# Altium schematic symbol library Capacitors.SchLib: 105 symbols
Pins are listed as number, name and electrical type; pins without a type are passive.

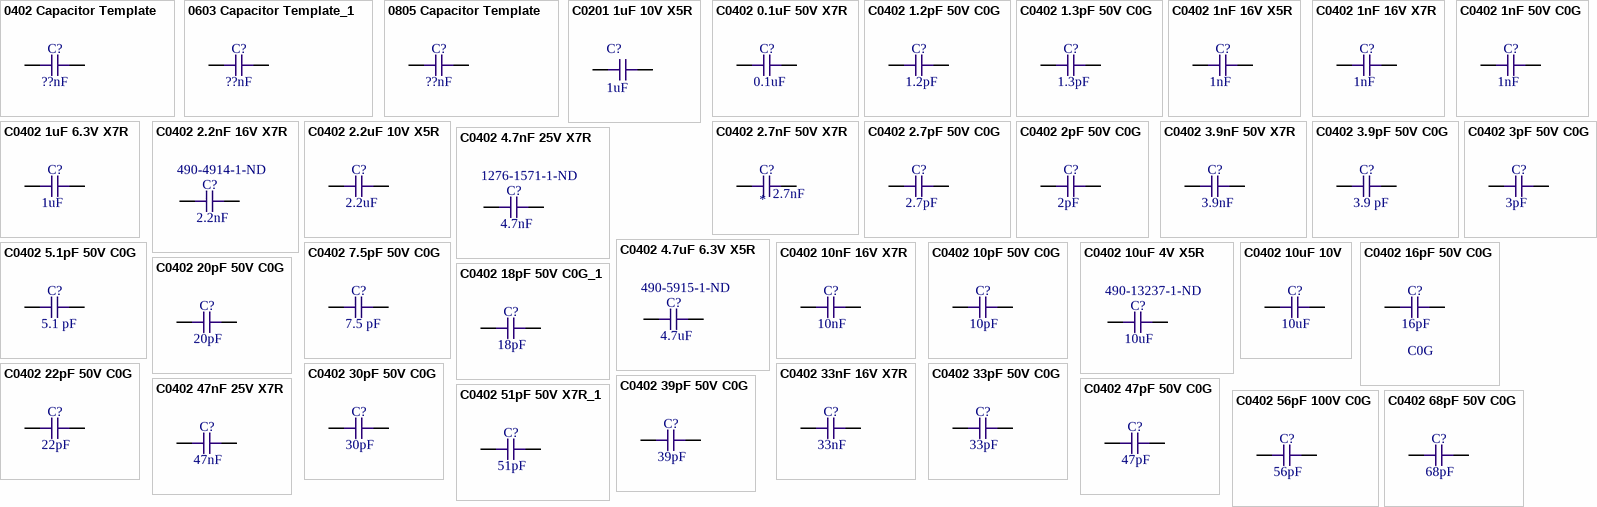
[diagram p0: symbols 0402 Capacitor Template to C0402 68pF 50V C0G]

## 0402 Capacitor Template
designator C?  value ??nF  (hidden comment: *)
Chip Capacitor, 0402, ??nF, 10V, X7R; EIA Code: X7R; Max. Voltage: 10V
footprint C0402-IPC
footprint C0402-HIGH-DENSITY (Chip Capacitor, 2-Leads, Body 1.02x0.51mm, IPC High Density)
pins: 1, 2

## 0603 Capacitor Template_1
designator C?  value ??nF  (hidden comment: *)
Chip Capacitor, 0603, ??nF, 10V, X7R; EIA Code: X7R; Max. Voltage: 10V
footprint C0603-IPC
footprint C0603-HIGH-DENSITY (Chip Capacitor, 2-Leads, Body 1.60x0.80mm, IPC High Density)
pins: 1, 2

## 0805 Capacitor Template
designator C?  value ??nF  (hidden comment: *)
Chip Capacitor, 0805, ??nF, 10V, X7R; EIA Code: X7R; Max. Voltage: 10V
footprint C0805-IPC
footprint C0805-HIGH-DENSITY (Chip Capacitor, 2-Leads, Body 2.00x1.25mm, IPC High Density)
pins: 1, 2

## C0201 1uF 10V X5R
designator C?, comment value 1uF  (hidden comment: CL03A105KP3NSNC)
Chip Capacitor, 0201, 1uF, 10V, X7R; EIA Code: X5R; Max. Voltage: 10V; Supplier 1: Digi-Key; Supplier 2: Mouser; Supplier Part Number 1: 1276-6795-1-ND; Supplier Part Number 2: 187-CL03A105KP3NSNC
footprint C0201-IPC-HIGH-DENSITY (Chip Capacitor, 2-Leads, Body 0.60x0.30mm, IPC High Density)
pins: 1, 2

## C0402 0.1uF 50V X7R
designator C?, comment value 0.1uF  (hidden comment: GRM155R71H104KE14D)
Chip Capacitor, 0402, 0.10uF, 50V, X7R; Supplier 1: Digi-Key; Supplier Part Number 1: 490-10700-1-ND
footprint C0402-IPC
footprint C0402-HIGH-DENSITY (Chip Capacitor, 2-Leads, Body 1.02x0.51mm, IPC High Density)
pins: 1, 2

## C0402 1.2pF 50V C0G
designator C?  value 1.2pF  (hidden comment: *)
Chip Capacitor, 0402, 1.2pF +/- 0.1pF, 50V, C0G; Max. Voltage: 50V; EIA Code: C0G; Supplier 1: Digi-Key; Supplier Part Number 1: 490-8085-1-ND
footprint C0402-IPC
footprint C0402-HIGH-DENSITY (Chip Capacitor, 2-Leads, Body 1.02x0.51mm, IPC High Density)
pins: 1, 2

## C0402 1.3pF 50V C0G
designator C?  value 1.3pF  (hidden comment: *)
Chip Capacitor, 0402, 1.3pF +/- 0.1pF, 50V, C0G; Max. Voltage: 50V; EIA Code: C0G; Supplier 1: Digi-Key; Supplier Part Number 1: 490-8086-1-ND
footprint C0402-IPC
footprint C0402-HIGH-DENSITY (Chip Capacitor, 2-Leads, Body 1.02x0.51mm, IPC High Density)
pins: 1, 2

## C0402 1nF 16V X5R
designator C?  value 1nF  (hidden comment: *)
Chip Capacitor, 0402, 1nF, 16V, X5R; EIA Code: X5R; Max. Voltage: 16V; Supplier 1: Digi-Key; Supplier Part Number 1: 490-6308-1-ND
footprint C0402-IPC
footprint C0402-HIGH-DENSITY (Chip Capacitor, 2-Leads, Body 1.02x0.51mm, IPC High Density)
pins: 1, 2

## C0402 1nF 16V X7R
designator C?  value 1nF  (hidden comment: *)
Chip Capacitor, 0402, 1nF, 25V, X7R; EIA Code: X5R; Max. Voltage: 16V; Supplier 1: Digi-Key; Supplier Part Number 1: 311-1352-1-ND
footprint C0402-IPC
footprint C0402-HIGH-DENSITY (Chip Capacitor, 2-Leads, Body 1.02x0.51mm, IPC High Density)
pins: 1, 2

## C0402 1nF 50V C0G
designator C?  value 1nF  (hidden comment: *)
Chip Capacitor, 0402, 1nF, 5%, 50V, C0G; Max. Voltage: 50V; EIA Code: C0G; Supplier 1: Digi-Key; Supplier Part Number 1: 490-3244-1-ND
footprint C0402-IPC
footprint C0402-HIGH-DENSITY (Chip Capacitor, 2-Leads, Body 1.02x0.51mm, IPC High Density)
pins: 1, 2

## C0402 1uF 6.3V X7R
designator C?  value 1uF  (hidden comment: *)
Chip Capacitor, 0402, 1uF, 6.3V, X7R; EIA Code: X7R; Max. Voltage: 6.3V; Supplier 1: Digi-Key; Supplier Part Number 1: 490-13339-1-ND
footprint C0402-HIGH-DENSITY (Chip Capacitor, 2-Leads, Body 1.02x0.51mm, IPC High Density)
pins: 1, 2

## C0402 2.2nF 16V X7R
designator C?  value 2.2nF  Supplier Part Number 1: 490-4914-1-ND  (hidden comment: *)
Chip Capacitor, 0402, 2.2nF, 25V, X7R; EIA Code: X5R; Max. Voltage: 16V; Supplier 1: Digi-Key
footprint C0402-IPC
footprint C0402-HIGH-DENSITY (Chip Capacitor, 2-Leads, Body 1.02x0.51mm, IPC High Density)
pins: 1, 2

## C0402 2.2uF 10V X5R
designator C?  value 2.2uF  (hidden comment: *)
Chip Capacitor, 0402, 2.2uF, 10V, X5R; EIA Code: X5R; Max. Voltage: 10V; Supplier 1: Digi-Key; Supplier Part Number 1: 490-10452-1-ND
footprint C0402-IPC
footprint C0402-HIGH-DENSITY (Chip Capacitor, 2-Leads, Body 1.02x0.51mm, IPC High Density)
pins: 1, 2

## C0402 2.7nF 50V X7R
designator C?  value 2.7nF
Chip Capcitor, 0402, 2.7nF, 50V, 10%, X7R; Supplier 1: Digi-Key; Supplier Part Number 1: 490-6361-1-ND
footprint C0402-IPC
pins: 1, 2

## C0402 2.7pF 50V C0G
designator C?  value 2.7pF  (hidden comment: *)
Chip Capacitor, 0402, 2.7pF +/- 0.1pF, 50V, C0G; Max. Voltage: 50V; EIA Code: C0G; Supplier 1: Digi-Key; Supplier Part Number 1: 490-8094-1-ND
footprint C0402-IPC
footprint C0402-HIGH-DENSITY (Chip Capacitor, 2-Leads, Body 1.02x0.51mm, IPC High Density)
pins: 1, 2

## C0402 2pF 50V C0G
designator C?  value 2pF  (hidden comment: *)
Chip Capacitor, 0402, 2pF +/0.25pF, 50V, C0G; Max. Voltage: 50V; EIA Code: C0G; Supplier 1: Digi-Key; Supplier Part Number 1: 490-3090-1-ND
footprint C0402-IPC
footprint C0402-HIGH-DENSITY (Chip Capacitor, 2-Leads, Body 1.02x0.51mm, IPC High Density)
pins: 1, 2

## C0402 3.9nF 50V X7R
designator C?  value 3.9nF  (hidden comment: *)
Chip Capacitor, 0402, 3.9nF, 10V, X7R; Max. Voltage: 50V; EIA Code: X7R; Supplier 1: Digi-Key; Supplier Part Number: 490-1307-1-ND
footprint C0402-IPC
footprint C0402-HIGH-DENSITY (Chip Capacitor, 2-Leads, Body 1.02x0.51mm, IPC High Density)
pins: 1, 2

## C0402 3.9pF 50V C0G
designator C?  value 3.9 pF  (hidden comment: *)
Chip Capacitor, 0402, 3.9pF +/- 0.1pF, 50V, C0G; Max. Voltage: 50V; EIA Code: C0G; Supplier 1: Digi-Key; Supplier Part Number 1: 490-11215-1-ND
footprint C0402-IPC
footprint C0402-HIGH-DENSITY (Chip Capacitor, 2-Leads, Body 1.02x0.51mm, IPC High Density)
pins: 1, 2

## C0402 3pF 50V C0G
designator C?  value 3pF  (hidden comment: *)
Chip Capacitor, 0402, 3pF +/0.1pF, 50V, C0G; Max. Voltage: 50V; EIA Code: C0G; Supplier 1: Digi-Key; Supplier Part Number 1: 490-8095-1-ND
footprint C0402-IPC
footprint C0402-HIGH-DENSITY (Chip Capacitor, 2-Leads, Body 1.02x0.51mm, IPC High Density)
pins: 1, 2

## C0402 4.7nF 25V X7R
designator C?  value 4.7nF  Supplier Part Number 1: 1276-1571-1-ND  (hidden comment: *)
Chip Capacitor, 0402, 4.7nF, 25V, X7R; EIA Code: X5R; Max. Voltage: 10V; Supplier 1: Digi-Key
footprint C0402-IPC
footprint C0402-HIGH-DENSITY (Chip Capacitor, 2-Leads, Body 1.02x0.51mm, IPC High Density)
pins: 1, 2

## C0402 4.7uF 6.3V X5R
designator C?  value 4.7uF  Supplier Part Number 1: 490-5915-1-ND  (hidden comment: *)
Chip Capacitor, 0402, 2.2uF, 10V, X5R; EIA Code: X5R; Max. Voltage: 10V; Supplier 1: Digi-Key
footprint C0402-IPC
footprint C0402-HIGH-DENSITY (Chip Capacitor, 2-Leads, Body 1.02x0.51mm, IPC High Density)
pins: 1, 2

## C0402 5.1pF 50V C0G
designator C?  value 5.1 pF  (hidden comment: *)
Chip Capacitor, 0402, 5.1pF +/- 0.1pF, 50V, C0G; Max. Voltage: 50V; EIA Code: C0G; Supplier 1: Digi-Key; Supplier Part Number 1: 490-11222-1-ND
footprint C0402-IPC
footprint C0402-HIGH-DENSITY (Chip Capacitor, 2-Leads, Body 1.02x0.51mm, IPC High Density)
pins: 1, 2

## C0402 7.5pF 50V C0G
designator C?  value 7.5 pF  (hidden comment: *)
Chip Capacitor, 0402, 7.5pF +/- 0.1pF, 50V, C0G; Max. Voltage: 50V; EIA Code: C0G; Supplier 1: Digi-Key; Supplier Part Number 1: 490-11235-1-ND
footprint C0402-IPC
footprint C0402-HIGH-DENSITY (Chip Capacitor, 2-Leads, Body 1.02x0.51mm, IPC High Density)
pins: 1, 2

## C0402 10nF 16V X7R
designator C?  value 10nF  (hidden comment: *)
Chip Capacitor, 0402, 10nF, 16V, X7R; EIA Code: X5R; Max. Voltage: 16V; Supplier 1: Digi-Key; Supplier Part Number 1: 490-1313-1-ND
footprint C0402-IPC
footprint C0402-HIGH-DENSITY (Chip Capacitor, 2-Leads, Body 1.02x0.51mm, IPC High Density)
pins: 1, 2

## C0402 10pF 50V C0G
designator C?  value 10pF  (hidden comment: *)
Chip Capacitor, 0402, 10pF, 50V, C0G; Max. Voltage: 50V; EIA Code: C0G; Supplier 1: Digi-Key; Supplier Part Number 1: 490-8077-1-ND
footprint C0402-IPC
footprint C0402-HIGH-DENSITY (Chip Capacitor, 2-Leads, Body 1.02x0.51mm, IPC High Density)
pins: 1, 2

## C0402 10uF 4V X5R
designator C?  value 10uF  Supplier Part Number 1: 490-13237-1-ND  (hidden comment: *)
Chip Capacitor, 0402, 10uF, 4V, X5R +-20%; EIA Code: X5R; Max. Voltage: 4V; Supplier 1: Digi-Key
footprint C0402-IPC
footprint C0402-HIGH-DENSITY (Chip Capacitor, 2-Leads, Body 1.02x0.51mm, IPC High Density)
pins: 1, 2

## C0402 10uF 10V
designator C?  value 10uF  (hidden comment: *)
Chip Capacitor, 0402, 10uF, 10V, X5R; EIA Code: X5R; Max. Voltage: 10V; Supplier 1: Digi-Key; Supplier Part Number 1: 1276-1450-2-ND
footprint C0402-HIGH-DENSITY (Chip Capacitor, 2-Leads, Body 1.02x0.51mm, IPC High Density)
pins: 1, 2

## C0402 16pF 50V C0G
designator C?  value 16pF  EIA Code: C0G  (hidden comment: *)
Chip Capacitor, 0402, 16pF, 50V, C0G; Max. Voltage: 50V; Supplier 1: Digi-Key; Supplier Part Number 1: 490-5926-1-ND
footprint C0402-IPC
footprint C0402-HIGH-DENSITY (Chip Capacitor, 2-Leads, Body 1.02x0.51mm, IPC High Density)
pins: 1, 2

## C0402 18pF 50V C0G_1
designator C?  value 18pF  (hidden comment: *)
Chip Capacitor, 0402, 18pF, 25V, C0G; Max. Voltage: 25V; Supplier 1: Digi-Key; Supplier Part Number 1: 399-14427-1-ND; EIA Code: C0G
footprint C0402-IPC
footprint C0402-HIGH-DENSITY (Chip Capacitor, 2-Leads, Body 1.02x0.51mm, IPC High Density)
pins: 1, 2

## C0402 20pF 50V C0G
designator C?  value 20pF  (hidden comment: *)
Chip Capacitor, 0402, 20pF, 50V, C0G; Max. Voltage: 50V; EIA Code: C0G; Supplier 1: Digi-Key; Supplier Part Number 1: 490-11204-1-ND
footprint C0402-IPC
footprint C0402-HIGH-DENSITY (Chip Capacitor, 2-Leads, Body 1.02x0.51mm, IPC High Density)
pins: 1, 2

## C0402 22pF 50V C0G
designator C?  value 22pF  (hidden comment: *)
Chip Capacitor, 0402, 22pF, 50V, C0G; Max. Voltage: 50V; EIA Code: C0G; Supplier 1: Digi-Key; Supplier Part Number 1: 490-6219-1-ND
footprint C0402-IPC
footprint C0402-HIGH-DENSITY (Chip Capacitor, 2-Leads, Body 1.02x0.51mm, IPC High Density)
pins: 1, 2

## C0402 30pF 50V C0G
designator C?  value 30pF  (hidden comment: *)
Chip Capacitor, 0402, 30pF, 2%, 50V, C0G; Max. Voltage: 50V; Supplier 1: Digi-Key; EIA Code: C0G; Supplier Part Number 1: 490-8198-1-ND
footprint C0402-IPC
footprint C0402-HIGH-DENSITY (Chip Capacitor, 2-Leads, Body 1.02x0.51mm, IPC High Density)
pins: 1, 2

## C0402 33nF 16V X7R
designator C?  value 33nF  (hidden comment: *)
Chip Capacitor, 0402, 33nF, 16V, X7R; EIA Code: X7R; Max. Voltage: 16V; Supplier 1: Digi-Key; Supplier Part Number 1: 1276-1553-1-ND
footprint C0402-IPC
footprint C0402-HIGH-DENSITY (Chip Capacitor, 2-Leads, Body 1.02x0.51mm, IPC High Density)
pins: 1, 2

## C0402 33pF 50V C0G
designator C?  value 33pF  (hidden comment: *)
Chip Capacitor, 0402, 33pF, 2%, 50V, C0G; Max. Voltage: 50V; EIA Code: C0G; Supplier 1: Digi-Key; Supplier Part Number 1: 490-7755-1-ND
footprint C0402-IPC
footprint C0402-HIGH-DENSITY (Chip Capacitor, 2-Leads, Body 1.02x0.51mm, IPC High Density)
pins: 1, 2

## C0402 39pF 50V C0G
designator C?  value 39pF  (hidden comment: *)
Chip Capacitor, 0402, 39pF, 2%, 50V, C0G; Max. Voltage: 50V; EIA Code: C0G; Supplier 1: Digi-Key; Supplier Part Number 1: 490-6235-1-ND
footprint C0402-IPC
footprint C0402-HIGH-DENSITY (Chip Capacitor, 2-Leads, Body 1.02x0.51mm, IPC High Density)
pins: 1, 2

## C0402 47nF 25V X7R
designator C?  value 47nF  (hidden comment: *)
Chip Capacitor, 0402, 47nF, 25V, X7R; EIA Code: X7R; Max. Voltage: 25V; Supplier 1: Digi-Key; Supplier Part Number 1: 490-7762-1-ND
footprint C0402-IPC
footprint C0402-HIGH-DENSITY (Chip Capacitor, 2-Leads, Body 1.02x0.51mm, IPC High Density)
pins: 1, 2

## C0402 47pF 50V C0G
designator C?  value 47pF  (hidden comment: *)
Chip Capacitor, 0402, 47pF, 1%, 50V, C0G; Max. Voltage: 50V; EIA Code: C0G; Supplier 1: Digi-Key; Supplier Part Number 1: 490-6241-1-ND
footprint C0402-IPC
footprint C0402-HIGH-DENSITY (Chip Capacitor, 2-Leads, Body 1.02x0.51mm, IPC High Density)
pins: 1, 2

## C0402 51pF 50V X7R_1
designator C?  value 51pF  (hidden comment: *)
Chip Capacitor, 0402, 51pF 50V, NP0; EIA Code: NP0; Max. Voltage: 50V; Supplier 1: Digi-Key; Supplier Part Number 1: 1276-1704-1-ND
footprint C0402-IPC
footprint C0402-HIGH-DENSITY (Chip Capacitor, 2-Leads, Body 1.02x0.51mm, IPC High Density)
pins: 1, 2

## C0402 56pF 100V C0G
designator C?  value 56pF  (hidden comment: *)
Chip Capacitor, 0402, 56pF, 1%, 100V, C0G; Max. Voltage: 100V; EIA Code: C0G; Supplier 1: Digi-Key; Supplier Part Number 1: 399-11254-1-ND
footprint C0402-IPC
footprint C0402-HIGH-DENSITY (Chip Capacitor, 2-Leads, Body 1.02x0.51mm, IPC High Density)
pins: 1, 2

## C0402 68pF 50V C0G
designator C?  value 68pF  (hidden comment: *)
Chip Capacitor, 0402, 68pF, 2%, 50V, C0G; Max. Voltage: 50V; EIA Code: C0G; Supplier 1: Digi-Key; Supplier Part Number 1: 490-6251-1-ND
footprint C0402-IPC
footprint C0402-HIGH-DENSITY (Chip Capacitor, 2-Leads, Body 1.02x0.51mm, IPC High Density)
pins: 1, 2

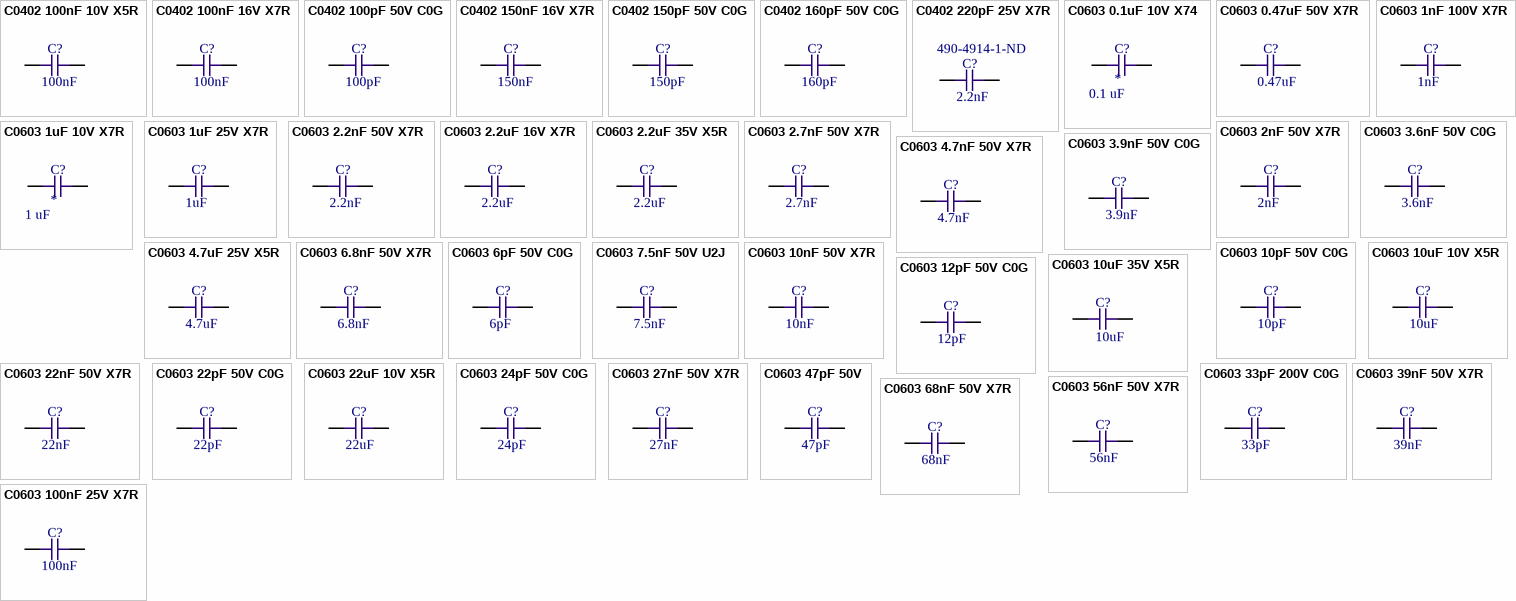
[diagram p1: symbols C0402 100nF 10V X5R to C0603 100nF 25V X7R]

## C0402 100nF 10V X5R
designator C?  value 100nF  (hidden comment: *)
Chip Capacitor, 0402, 100nF, 10V, X5R; EIA Code: X5R; Max. Voltage: 10V; Supplier 1: Digi-Key; Supplier Part Number 1: 311-1336-1-ND
footprint C0402-IPC
footprint C0402-HIGH-DENSITY (Chip Capacitor, 2-Leads, Body 1.02x0.51mm, IPC High Density)
pins: 1, 2

## C0402 100nF 16V X7R
designator C?  value 100nF  (hidden comment: *)
Chip Capacitor, 0402, 100nF, 16V, X7R; EIA Code: X5R; Max. Voltage: 16V; Supplier 1: Digi-Key; Supplier Part Number 1: 490-6328-1-ND
footprint C0402-IPC
footprint C0402-HIGH-DENSITY (Chip Capacitor, 2-Leads, Body 1.02x0.51mm, IPC High Density)
pins: 1, 2

## C0402 100pF 50V C0G
designator C?  value 100pF  (hidden comment: *)
Chip Capacitor, 0402, 100p, 1%, 50V, C0G; Max. Voltage: 50V; EIA Code: C0G; Supplier 1: Digi-Key; Supplier Part Number 1: 490-7753-1-ND
footprint C0402-IPC
footprint C0402-HIGH-DENSITY (Chip Capacitor, 2-Leads, Body 1.02x0.51mm, IPC High Density)
pins: 1, 2

## C0402 150nF 16V X7R
designator C?  value 150nF  (hidden comment: *)
Chip Capacitor, 0402, 150nF, 16V, X7R; EIA Code: X7R; Max. Voltage: 16V; Supplier 1: Digi-Key; Supplier Part Number 1: 1276-6651-1-ND
footprint C0402-HIGH-DENSITY (Chip Capacitor, 2-Leads, Body 1.02x0.51mm, IPC High Density)
pins: 1, 2

## C0402 150pF 50V C0G
designator C?  value 150pF  (hidden comment: *)
Chip Capacitor, 0402, 150pF, 50V, C0G; Max. Voltage: 50V; EIA Code: C0G; Supplier 1: Digi-Key; Supplier Part Number 1: 490-8186-1-ND
footprint C0402-IPC
footprint C0402-HIGH-DENSITY (Chip Capacitor, 2-Leads, Body 1.02x0.51mm, IPC High Density)
pins: 1, 2

## C0402 160pF 50V C0G
designator C?  value 160pF  (hidden comment: *)
Chip Capacitor, 0402, 160pF, 50V, C0G; Max. Voltage: 50V; EIA Code: C0G; Supplier 1: Digi-Key; Supplier Part Number 1: 490-6202-1-ND
footprint C0402-IPC
footprint C0402-HIGH-DENSITY (Chip Capacitor, 2-Leads, Body 1.02x0.51mm, IPC High Density)
pins: 1, 2

## C0402 220pF 25V X7R
designator C?  value 2.2nF  Supplier Part Number 1: 490-4914-1-ND  (hidden comment: *)
Chip Capacitor, 0402, 2.2nF, 25V, X7R; EIA Code: X5R; Max. Voltage: 16V; Supplier 1: Digi-Key
footprint C0402-IPC
footprint C0402-HIGH-DENSITY (Chip Capacitor, 2-Leads, Body 1.02x0.51mm, IPC High Density)
pins: 1, 2

## C0603 0.1uF 10V X74
designator C?  value 0.1 uF
Chip Capacitor, 0603, 0.1uF, 10V, X7R; Max. Voltage: 10V; EIA Code: X7R
footprint C0603-IPC
pins: 1, 2

## C0603 0.47uF 50V X7R
designator C?  value 0.47uF  (hidden comment: *)
Chip Capacitor, 0603, 0.47uF, 50V, X7R; EIA Code: X7R; Max. Voltage: 50V; Supplier 1: Digi-Key; Features: Soft Termination; Supplier Part Number 1: 445-172485-1-ND
footprint C0603-IPC
pins: 1, 2

## C0603 1nF 100V X7R
designator C?  value 1nF  (hidden comment: *)
CAP CER 1000PF 100V X7R 0603; EIA Code: X7R; Max. Voltage: 100V; Supplier 1: Digi-Key; Supplier Part Number 1: 1276-1131-1-ND
footprint C0603-IPC
footprint C0603-HIGH-DENSITY (Chip Capacitor, 2-Leads, Body 1.60x0.80mm, IPC High Density)
pins: 1, 2

## C0603 1uF 10V X7R
designator C?  value 1 uF
Chip Capacitor, 0603, 1uF +/- 0.1uF, 10V, X7R; Supplier 1: Digi-Key; Supplier Part Number 1: 1276-1946-1-ND; Max. Voltage: 10V; EIA Code: X7R
footprint C0603-IPC
pins: 1, 2

## C0603 1uF 25V X7R
designator C?  value 1uF  (hidden comment: *)
CAP CER 1UF 25V X7R 0603; EIA Code: X7R; Max. Voltage: 25V; Features: Soft Termination; Supplier 1: Digi-Key; Supplier Part Number 1: 445-173615-1-ND
footprint C0603-IPC
footprint C0603-HIGH-DENSITY (Chip Capacitor, 2-Leads, Body 1.60x0.80mm, IPC High Density)
pins: 1, 2

## C0603 2.2nF 50V X7R
designator C?  value 2.2nF  (hidden comment: *)
Chip Capacitor, 0603, 2.2nF, 50V, X7R; EIA Code: X7R; Max. Voltage: 50V; Supplier 1: Digi-Key; Supplier Part Number 1: 490-4931-1-ND
footprint C0603-IPC
footprint C0603-HIGH-DENSITY (Chip Capacitor, 2-Leads, Body 1.60x0.80mm, IPC High Density)
pins: 1, 2

## C0603 2.2uF 16V X7R
designator C?, comment value 2.2uF  (hidden comment: 0603, 2.2uF, 16V, X7R)
Chip Capacitor, 0603, 2.2uF, 16V, X7R; Max. Voltage: 10V; EIA Code: X7R; Supplier 1: Digi-Key; Supplier Part Number 1: 587-5835-1-ND
footprint C0603-IPC
footprint C0603-HIGH-DENSITY (Chip Capacitor, 2-Leads, Body 1.60x0.80mm, IPC High Density)
pins: 1, 2

## C0603 2.2uF 35V X5R
designator C?  value 2.2uF  (hidden comment: *)
MLCC, SOFT TERMINATION, 0603, X5R; Max. Voltage: 35V; EIA Code: X5R; Supplier 1: Digi-Key; Supplier Part Number 1: 445-175227-1-ND; Features: Soft Termination
footprint C0603-IPC
footprint C0603-HIGH-DENSITY (Chip Capacitor, 2-Leads, Body 1.60x0.80mm, IPC High Density)
pins: 1, 2

## C0603 2.7nF 50V X7R
designator C?  value 2.7nF  (hidden comment: *)
CAP CER 2700PF 50V X7R 0603; EIA Code: X7R; Max. Voltage: 50V; Features: Soft Termination; Supplier 1: Digi-Key; Supplier Part Number 1: 1276-2023-1-ND
footprint C0603-IPC
footprint C0603-HIGH-DENSITY (Chip Capacitor, 2-Leads, Body 1.60x0.80mm, IPC High Density)
pins: 1, 2

## C0603 2nF 50V X7R
designator C?  value 2nF  (hidden comment: *)
Chip Capacitor, 0603, 2nF, 50V, X7R; EIA Code: X7R; Max. Voltage: 50V; Supplier 1: Digi-Key; Supplier Part Number 1: 1276-1983-1-ND
footprint C0603-IPC
footprint C0603-HIGH-DENSITY (Chip Capacitor, 2-Leads, Body 1.60x0.80mm, IPC High Density)
pins: 1, 2

## C0603 3.6nF 50V C0G
designator C?  value 3.6nF  (hidden comment: *)
Chip Capacitor, 0603, 3.6nF, 50V, X7R; EIA Code: C0G; Max. Voltage: 50V; Supplier 1: Digi-Key; Supplier Part Number 1: 490-6386-1-ND
footprint C0603-IPC
footprint C0603-HIGH-DENSITY (Chip Capacitor, 2-Leads, Body 1.60x0.80mm, IPC High Density)
pins: 1, 2

## C0603 3.9nF 50V C0G
designator C?  value 3.9nF  (hidden comment: *)
CAP CER 3900PF 50V C0G/NP0 0603; EIA Code: C0G; Max. Voltage: 50V; Supplier 1: Digi-Key; Supplier Part Number 1: 490-11958-1-ND
footprint C0603-IPC
footprint C0603-HIGH-DENSITY (Chip Capacitor, 2-Leads, Body 1.60x0.80mm, IPC High Density)
pins: 1, 2

## C0603 4.7nF 50V X7R
designator C?  value 4.7nF  (hidden comment: *)
CAP CER 4700PF 50V X7R 0603; EIA Code: X7R; Max. Voltage: 50V; Supplier 1: Digi-Key; Supplier Part Number 1: 1276-2066-1-ND; Features: Soft Termination
footprint C0603-IPC
footprint C0603-HIGH-DENSITY (Chip Capacitor, 2-Leads, Body 1.60x0.80mm, IPC High Density)
pins: 1, 2

## C0603 4.7uF 25V X5R
designator C?, comment value 4.7uF  (hidden comment: 4.7uF, 25V, X5R, 0603)
Chip Capacitor, 0603, 4.7uF, 25V, X5R; EIA Code: X5R; Max. Voltage: 25V; Supplier 1: Digi-Key; Supplier 2: Mouser; Supplier 3: LCSC; Supplier Part Number 1: 490-7203-1-ND; Supplier Part Number 2: 81-GRM188R61E475KE1D; Supplier Part Number 3: C90057
footprint C0603-HIGH-DENSITY (Chip Capacitor, 2-Leads, Body 1.60x0.80mm, IPC High Density)
footprint C0603-IPC
pins: 1, 2

## C0603 6.8nF 50V X7R
designator C?  value 6.8nF  (hidden comment: *)
Chip Capacitor, 0603, 6.8nF, 50V, X7R; EIA Code: X7R; Max. Voltage: 50V; Supplier 1: Digi-Key; Supplier Part Number 1: 490-6055-1-ND
footprint C0603-IPC
footprint C0603-HIGH-DENSITY (Chip Capacitor, 2-Leads, Body 1.60x0.80mm, IPC High Density)
pins: 1, 2

## C0603 6pF 50V C0G
designator C?, comment value 6pF  (hidden comment: CL10C060DB8NNNC)
CAP CER 6PF 50V C0G/NP0 0603; EIA Code: C0G; Max. Voltage: 50V; Supplier 1: Digi-Key; Supplier 2: Mouser; Supplier 3: LCSC; Supplier Part Number 1: 1276-2134-1-ND; Supplier Part Number 2: 187-CL10C060DB8NNNC; Supplier Part Number 3: C170142
footprint C0603-IPC
footprint C0603-HIGH-DENSITY (Chip Capacitor, 2-Leads, Body 1.60x0.80mm, IPC High Density)
footprint C0603-IPC
pins: 1, 2

## C0603 7.5nF 50V U2J
designator C?  value 7.5nF  (hidden comment: *)
CAP CER 7500PF 50V U2J 0603; EIA Code: U2J; Max. Voltage: 50V; Supplier 1: Digi-Key; Supplier Part Number 1: 399-13414-1-ND; Features: Soft Termination; Supplier 2: Digi-Key; Supplier Part Number 2: 490-6400-1-ND
footprint C0603-IPC
footprint C0603-HIGH-DENSITY (Chip Capacitor, 2-Leads, Body 1.60x0.80mm, IPC High Density)
pins: 1, 2

## C0603 10nF 50V X7R
designator C?  value 10nF  (hidden comment: *)
CAP CER 10000PF 50V X7R 0603; EIA Code: X7R; Max. Voltage: 50V; Features: Soft Termination; Supplier 1: Digi-Key; Supplier Part Number 1: 490-10892-1-ND
footprint C0603-IPC
footprint C0603-HIGH-DENSITY (Chip Capacitor, 2-Leads, Body 1.60x0.80mm, IPC High Density)
pins: 1, 2

## C0603 10pF 50V C0G
designator C?  value 10pF  (hidden comment: *)
CAP CER 10PF 50V C0G/NP0 0603; EIA Code: C0G; Max. Voltage: 50V; Supplier 1: Digi-Key; Supplier Part Number 1: 399-7378-1-ND
footprint C0603-IPC
footprint C0603-HIGH-DENSITY (Chip Capacitor, 2-Leads, Body 1.60x0.80mm, IPC High Density)
pins: 1, 2

## C0603 10uF 10V X5R
designator C?  value 10uF  (hidden comment: *)
Chip Capacitor, 0603, 10uF, 10V, X5R; EIA Code: X7R; Max. Voltage: 10V; Supplier 1: Digi-Key; Supplier Part Number 1: 490-10474-1-ND
footprint C0603-IPC
footprint C0603-HIGH-DENSITY (Chip Capacitor, 2-Leads, Body 1.60x0.80mm, IPC High Density)
pins: 1, 2

## C0603 10uF 35V X5R
designator C?  value 10uF  (hidden comment: *)
10µF ±20% 35V Ceramic Capacitor X5R 0603 (1608 Metric); Supplier 1: Digi-Key; Supplier Part Number 1: 490-13248-1-ND
footprint C0603-HIGH-DENSITY (Chip Capacitor, 2-Leads, Body 1.60x0.80mm, IPC High Density)
pins: 1, 2

## C0603 12pF 50V C0G
designator C?, comment value 12pF  (hidden comment: C0603C120J5GACTU)
CAP CER 12PF 50V C0G/NP0 0603; EIA Code: C0G; Max. Voltage: 50V; Supplier 1: Digi-Key; Supplier 2: Mouser; Supplier Part Number 1: 399-1050-1-ND; Supplier Part Number 2: 80-C0603C120J5G
footprint C0603-IPC
footprint C0603-HIGH-DENSITY (Chip Capacitor, 2-Leads, Body 1.60x0.80mm, IPC High Density)
pins: 1, 2

## C0603 22nF 50V X7R
designator C?  value 22nF  (hidden comment: *)
Chip Capacitor, 0603, 22nF, 50V, X7R; EIA Code: X7R; Max. Voltage: 50V; Supplier 1: Digi-Key; Supplier Part Number 1: 1276-6534-1-ND
footprint C0603-IPC
footprint C0603-HIGH-DENSITY (Chip Capacitor, 2-Leads, Body 1.60x0.80mm, IPC High Density)
pins: 1, 2

## C0603 22pF 50V C0G
designator C?  value 22pF  (hidden comment: *)
CAP CER 22PF 50V C0G/NP0 0603; EIA Code: C0G; Max. Voltage: 50V; Supplier 1: Digi-Key; Supplier Part Number 1: 732-7795-1-ND
footprint C0603-IPC
footprint C0603-HIGH-DENSITY (Chip Capacitor, 2-Leads, Body 1.60x0.80mm, IPC High Density)
pins: 1, 2

## C0603 22uF 10V X5R
designator C?  value 22uF  (hidden comment: *)
Chip Capacitor, 0603, 22uF, 10V, X5R; EIA Code: X5R; Max. Voltage: 10V; Supplier 1: Digi-Key; Supplier Part Number 1: 490-10476-1-ND
footprint C0603-IPC
footprint C0603-HIGH-DENSITY (Chip Capacitor, 2-Leads, Body 1.60x0.80mm, IPC High Density)
pins: 1, 2

## C0603 24pF 50V C0G
designator C?  value 24pF  (hidden comment: *)
Chip Capacitor, 0603, 24pF, 2%, 50V, C0G; EIA Code: C0G; Max. Voltage: 50V; Supplier 1: Digi-Key; Supplier Part Number 1: 490-8131-1-ND
footprint C0603-IPC
footprint C0603-HIGH-DENSITY (Chip Capacitor, 2-Leads, Body 1.60x0.80mm, IPC High Density)
pins: 1, 2

## C0603 27nF 50V X7R
designator C?  value 27nF  (hidden comment: *)
Chip Capacitor, 0603, 27nF, 50V, X7R; EIA Code: X7R; Max. Voltage: 50V; Supplier 1: Digi-Key; Supplier Part Number 1: 1276-2025-1-ND
footprint C0603-IPC
footprint C0603-HIGH-DENSITY (Chip Capacitor, 2-Leads, Body 1.60x0.80mm, IPC High Density)
pins: 1, 2

## C0603 33pF 200V C0G
designator C?  value 33pF  (hidden comment: *)
CAP CER 33PF 200V C0G/NP0 0603; EIA Code: C0G; Max. Voltage: 200V; Supplier 1: Digi-Key; Supplier Part Number 1: 399-9059-1-ND
footprint C0603-IPC
footprint C0603-HIGH-DENSITY (Chip Capacitor, 2-Leads, Body 1.60x0.80mm, IPC High Density)
pins: 1, 2

## C0603 39nF 50V X7R
designator C?  value 39nF  (hidden comment: *)
Chip Capacitor, 0603, 39nF, 50V, X7R; EIA Code: X7R; Max. Voltage: 50V; Supplier 1: Digi-Key; Supplier Part Number 1: 1276-2055-1-ND
footprint C0603-IPC
footprint C0603-HIGH-DENSITY (Chip Capacitor, 2-Leads, Body 1.60x0.80mm, IPC High Density)
pins: 1, 2

## C0603 47pF 50V
designator C?  value 47pF  (hidden comment: *)
CAP CER 47PF 50V C0G/NP0 0603; EIA Code: C0G/CP0; Max. Voltage: 50V; Supplier 1: Digi-Key; Supplier Part Number 1: 399-1056-1-ND
footprint C0603-IPC
footprint C0603-HIGH-DENSITY (Chip Capacitor, 2-Leads, Body 1.60x0.80mm, IPC High Density)
pins: 1, 2

## C0603 56nF 50V X7R
designator C?  value 56nF  (hidden comment: *)
Chip Capacitor, 0603, 56nF, 50V, X7R; EIA Code: X7R; Max. Voltage: 50V; Supplier 1: Digi-Key; Supplier Part Number 1: 1276-2096-1-ND
footprint C0603-IPC
footprint C0603-HIGH-DENSITY (Chip Capacitor, 2-Leads, Body 1.60x0.80mm, IPC High Density)
pins: 1, 2

## C0603 68nF 50V X7R
designator C?  value 68nF  (hidden comment: *)
Chip Capacitor, 0603, 68nF, 50V, X7R; EIA Code: X7R; Max. Voltage: 50V; Supplier 1: Digi-Key; Supplier Part Number 1: 1276-6541-1-ND
footprint C0603-IPC
footprint C0603-HIGH-DENSITY (Chip Capacitor, 2-Leads, Body 1.60x0.80mm, IPC High Density)
pins: 1, 2

## C0603 100nF 25V X7R
designator C?  value 100nF  (hidden comment: *)
Chip Capacitor, 0603, 100nF, 25V, X7R; EIA Code: X7R; Max. Voltage: 25V; Supplier 1: Digi-Key; Supplier Part Number 1: 490-1524-1-ND
footprint C0603-IPC
footprint C0603-HIGH-DENSITY (Chip Capacitor, 2-Leads, Body 1.60x0.80mm, IPC High Density)
pins: 1, 2

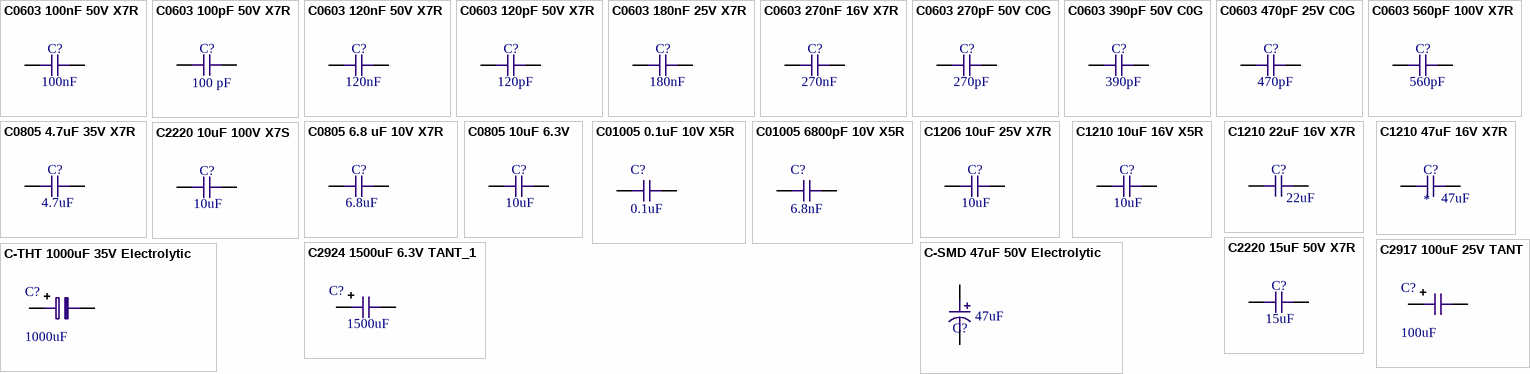
[diagram p2: symbols C0603 100nF 50V X7R to C-THT 1000uF 35V Electrolytic]

## C0603 100nF 50V X7R
designator C?  value 100nF  (hidden comment: *)
CAP CER 0.1UF 50V X7R 0603; EIA Code: X7R; Max. Voltage: 50V; Features: Soft Termination; Ratings: AEC-Q200; Supplier 1: Digi-Key; Supplier Part Number 1: 490-5798-1-ND
footprint C0603-IPC
footprint C0603-HIGH-DENSITY (Chip Capacitor, 2-Leads, Body 1.60x0.80mm, IPC High Density)
pins: 1, 2

## C0603 100pF 50V X7R
designator C?  value 100 pF  (hidden comment: *)
100pF ±10% 50V Ceramic Capacitor X7R 0603 (1608 Metric); Supplier 1: Digi-Key; Supplier Part Number 1: 311-3601-1-ND
footprint C0603-HIGH-DENSITY (Chip Capacitor, 2-Leads, Body 1.60x0.80mm, IPC High Density)
pins: 1, 2

## C0603 120nF 50V X7R
designator C?  value 120nF  (hidden comment: *)
CAP CER 0.12UF 50V X7R 0603; EIA Code: X7R; Max. Voltage: 50V; Features: Soft Termination; Supplier 1: Digi-Key; Supplier Part Number 1: 399-13273-1-ND
footprint C0603-IPC
footprint C0603-HIGH-DENSITY (Chip Capacitor, 2-Leads, Body 1.60x0.80mm, IPC High Density)
pins: 1, 2

## C0603 120pF 50V X7R
designator C?  value 120pF  (hidden comment: *)
Chip Capacitor, 0603, 120pF, 10V, X7R; Max. Voltage: 50V; EIA Code: X7R; Supplier 1: Digi-Key; Supplier Part Number 1: 1276-1949-1-ND
footprint C0603-IPC
footprint C0603-HIGH-DENSITY (Chip Capacitor, 2-Leads, Body 1.60x0.80mm, IPC High Density)
pins: 1, 2

## C0603 180nF 25V X7R
designator C?  value 180nF  (hidden comment: *)
Chip Capacitor, 0603, 180nF, 25V, X7R; EIA Code: X7R; Max. Voltage: 25V; Supplier 1: Digi-Key; Supplier Part Number 1: 490-6431-1-ND
footprint C0603-IPC
footprint C0603-HIGH-DENSITY (Chip Capacitor, 2-Leads, Body 1.60x0.80mm, IPC High Density)
pins: 1, 2

## C0603 270nF 16V X7R
designator C?  value 270nF  (hidden comment: *)
Chip Capacitor, 0603, 270nF, 16V, X7R; Max. Voltage: 10V; EIA Code: X7R; Supplier 1: Digi-Key; Supplier Part Number 1: 490-6427-1-ND
footprint C0603-IPC
footprint C0603-HIGH-DENSITY (Chip Capacitor, 2-Leads, Body 1.60x0.80mm, IPC High Density)
pins: 1, 2

## C0603 270pF 50V C0G
designator C?  value 270pF  (hidden comment: *)
CAP CER 270PF 50V C0G/NP0 0603; EIA Code: X7R; Max. Voltage: 50V; Supplier 1: Digi-Key; Supplier Part Number 1: 399-7395-1-ND
footprint C0603-IPC
footprint C0603-HIGH-DENSITY (Chip Capacitor, 2-Leads, Body 1.60x0.80mm, IPC High Density)
pins: 1, 2

## C0603 390pF 50V C0G
designator C?  value 390pF  (hidden comment: *)
CAP CER 390PF 50V C0G/NP0 0603; EIA Code: C0G; Max. Voltage: 50V; Supplier 1: Digi-Key; Supplier Part Number 1: 399-7399-1-ND
footprint C0603-IPC
footprint C0603-HIGH-DENSITY (Chip Capacitor, 2-Leads, Body 1.60x0.80mm, IPC High Density)
pins: 1, 2

## C0603 470pF 25V C0G
designator C?  value 470pF  (hidden comment: *)
CAP CER 470PF 25V C0G/NP0 0603; EIA Code: C0G; Max. Voltage: 25V; Supplier 1: Digi-Key; Supplier Part Number 1: 732-7784-1-ND
footprint C0603-IPC
footprint C0603-HIGH-DENSITY (Chip Capacitor, 2-Leads, Body 1.60x0.80mm, IPC High Density)
pins: 1, 2

## C0603 560pF 100V X7R
designator C?  value 560pF  (hidden comment: *)
CAP CER 560PF 100V X7R 0603; EIA Code: X7R; Max. Voltage: 100V; Supplier 1: Digi-Key; Supplier Part Number 1: 1276-6657-1-ND
footprint C0603-IPC
footprint C0603-HIGH-DENSITY (Chip Capacitor, 2-Leads, Body 1.60x0.80mm, IPC High Density)
pins: 1, 2

## C0805 4.7uF 35V X7R
designator C?  value 4.7uF  (hidden comment: *)
CAP CER 4.7UF 35V X7R 0805; EIA Code: X7R; Max. Voltage: 35V; Features: Soft Termination; Operating Temperature: -55°C ~ 125°C; Supplier 1: Digi-Key; Supplier Part Number 1: 445-172490-1-ND
footprint C0805-IPC
footprint C0805-HIGH-DENSITY (Chip Capacitor, 2-Leads, Body 2.00x1.25mm, IPC High Density)
pins: 1, 2

## C0805 6.8 uF 10V X7R
designator C?  value 6.8uF  (hidden comment: *)
Chip Capacitor, 0805, 6.8uF, 10V, X7R; EIA Code: X7R; Max. Voltage: 10V; Supplier 1: Digi-Key; Supplier Part Number 1: 445-14530-1-ND
footprint C0805-HIGH-DENSITY (Chip Capacitor, 2-Leads, Body 2.00x1.25mm, IPC High Density)
pins: 1, 2

## C0805 10uF 6.3V
designator C?  value 10uF  (hidden comment: *)
CAP CER 10UF 6.3V X7R 0805; EIA Code: X7R; Max. Voltage: 6.3V; Features: Soft Termination; Ratings: AEC-Q200; Supplier 1: Digi-Key; Supplier Part Number 1: 587-4357-1-ND
footprint C0805-IPC
footprint C0805-HIGH-DENSITY (Chip Capacitor, 2-Leads, Body 2.00x1.25mm, IPC High Density)
pins: 1, 2

## C01005 0.1uF 10V X5R
designator C?, comment value 0.1uF  (hidden comment: CM02X5R104M10AH)
Chip Capacitor, 01005, 0.1uF, 10V, X5R; EIA Code: X5R; Max. Voltage: 10V; Supplier 1: Digi-Key; Supplier 2: Mouser; Supplier Part Number 1: 1253-CM02X5R104M10AHCT-ND; Supplier Part Number 2: 346-CM02X5R104M10AH
footprint C01005-IPC-HIGH-DENSITY (Chip Capacitor, 2-Leads, Body 0.40x0.20mm, IPC High Density)
pins: 1, 2

## C01005 6800pF 10V X5R
designator C?, comment value 6.8nF  (hidden comment: CM02X5R682M16AH)
6800pF ±20% 16V Ceramic Capacitor X5R 01005 (0402 Metric); Max. Voltage: 10V; EIA Code: X5R; Supplier 1: Digi-Key; Supplier Part Number 1: 1253-CM02X5R682M16AHCT-ND
footprint C01005-IPC-HIGH-DENSITY (Chip Capacitor, 2-Leads, Body 0.40x0.20mm, IPC High Density)
pins: 1, 2

## C1206 10uF 25V X7R
designator C?  value 10uF  (hidden comment: *)
CAP CER 10UF 25V X7R 1206; EIA Code: X7R; Max. Voltage: 25V; Features: Soft Termination; Supplier 1: Digi-Key; Supplier Part Number 1: 399-15732-1-ND
footprint C1206-IPC (Chip Capacitor, 2-Leads, Body 3.20x1.60mm, IPC Medium Density)
pins: 1, 2

## C1210 10uF 16V X5R
designator C?  value 10uF  (hidden comment: *)
Chip Capacitor, 1210, 10uF, 16V, X5R; EIA Code: X5R; Max. Voltage: 16V; Supplier 1: Digi-Key; Supplier Part Number 1: 587-1376-1-ND
footprint C1210-IPC (Chip Capacitor, Body 3.2x2.5mm, IPC High Density)
pins: 1, 2

## C1210 22uF 16V X7R
designator C?, comment value 22uF  (hidden comment: CAP CER 22UF 16V X7R 1210)
22µF ±10% 16V Ceramic Capacitor X7R 1210; Supplier 1: Digi-Key; Supplier Part Number 1: 1276-1855-1-ND
footprint C1210-IPC (Chip Capacitor, Body 3.2x2.5mm, IPC High Density)
pins: 1, 2

## C1210 47uF 16V X7R
designator C?  Capacitance: 47uF
CAP CER 47UF 16V X5R 1210; Tolerance: ±10%; Supplier 1: Digi-Key; Supplier Part Number 1: 1276-3376-1-ND; emperature Coefficient: X5R; Voltage - Rated: 16V; Operating Temperature: -55°C ~ 85°C
footprint C1210-IPC (Chip Capacitor, Body 3.2x2.5mm, IPC High Density)
pins: 1, 2

## C2220 10uF 100V X7S
designator C?  value 10uF  (hidden comment: *)
CAP CER 10UF 100V X7S 2220; EIA Code: X7S; Max. Voltage: 100V; Supplier 1: Digi-Key; Supplier Part Number 1: 445-8871-1-ND
footprint C2220-IPC (Chip Capacitor, 2-Leads, Body 5.70x5.00mm, IPC Low Density)
pins: 1, 2

## C2220 15uF 50V X7R
designator C?  value 15uF  (hidden comment: *)
Chip Capacitor, 2220, 15uF, 50V, X7R; EIA Code: X7R; Max. Voltage: 50V; Supplier 1: Digi-Key; Supplier Part Number 1: 565-3335-1-ND
footprint C2220-IPC (Chip Capacitor, 2-Leads, Body 5.70x5.00mm, IPC Low Density)
pins: 1, 2

## C2917 100uF 25V TANT
designator C?  value 100uF  (hidden comment: *)
CAP TANT 100UF 25V 10% 2917; Supplier 1: Digi-Key; Supplier Part Number 1: 478-1723-1-ND
footprint C2917
pins: 1, 2

## C2924 1500uF 6.3V TANT_1
designator C?  value 1500uF  (hidden comment: *)
CAP TANT POLY 1500UF 6.3V 2924; Supplier 1: Digi-Key; Supplier Part Number 1: 399-8860-1-ND
footprint C2942-POLARIZED (Chip Capacitor, 2-Leads, Body 7.30x6.00mm, IPC Medium Density)
pins: 1, 2

## C-SMD 47uF 50V Electrolytic
designator C?, comment value 47uF  (hidden comment: UUR1H470MCL6GS)
47uF ±20% 50V SMD,6.3x7.7mm Aluminum Electrolytic Capacitors - SMD; Supplier 1: Digi-Key; Supplier 2: Mouser; Supplier 3: LCSC; Supplier Part Number 1: 493-6230-1-ND; Supplier Part Number 2: 647-UUR1H470MCL6GS; Supplier Part Number 3: C445227
footprint C-SMD-Polarized-6.3x7.7mm (Aluminum Electrolytic Capacitor, Body 2.20x6.60x7.70mm, IPC Low Density)
pins: 1, 2

## C-THT 1000uF 35V Electrolytic
designator C?, comment value 1000uF  (hidden comment: 35ZLH1000MEFC12.5X20)
1000uF ±20% 35V 12.5x20 10000Hrs @ 105℃ Radial,12.5x20mm Aluminum Electrolytic Capacitors - Leaded RoHS; Supplier 1: Digi-Key; Supplier 2: Mouser; Supplier 3: LCSC; Supplier Part Number 1: 1189-1888-ND; Supplier Part Number 2: 232-LH1000MEFC125X20; Supplier Part Number 3: C338194
footprint C-POLARIZED-5-12.5 (Through-hole Capacitor)
footprint C-POLARIZED-5-12.5 Horizontal (Flat Mount Through-hole Capacitor)
pins: 1, 2